# Altium schematic symbol library 16F946.Schlib: 1 symbol
Pins are listed as number, name and electrical type; pins without a type are passive.

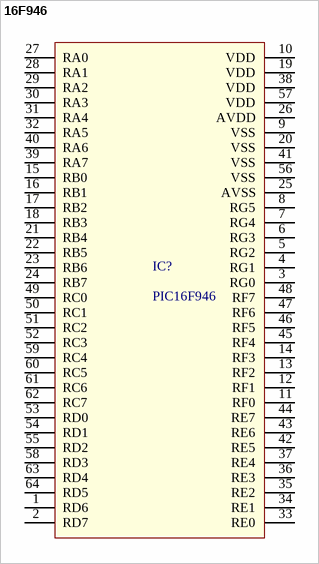
[diagram p0: symbol 16F946]

## 16F946
designator IC?, comment PIC16F946
8-bit Microcontrollers - MCU
pins: 1 RD6, 2 RD7, 3 RG0, 4 RG1, 5 RG2, 6 RG3, 7 RG4, 8 RG5, 9 VSS, 10 VDD, 11 RF0, 12 RF1, 13 RF2, 14 RF3, 15 RB0, 16 RB1, 17 RB2, 18 RB3, 19 VDD, 20 VSS, 21 RB4, 22 RB5, 23 RB6, 24 RB7, 25 AVSS, 26 AVDD, 27 RA0, 28 RA1, 29 RA2, 30 RA3, 31 RA4, 32 RA5, 33 RE0, 34 RE1, 35 RE2, 36 RE3, 37 RE4, 38 VDD, 39 RA7, 40 RA6, 41 VSS, 42 RE5, 43 RE6, 44 RE7, 45 RF4, 46 RF5, 47 RF6, 48 RF7, 49 RC0, 50 RC1, 51 RC2, 52 RC3, 53 RD0, 54 RD1, 55 RD2, 56 VSS, 57 VDD, 58 RD3, 59 RC4, 60 RC5, 61 RC6, 62 RC7, 63 RD4, 64 RD5